# EAGLE library part 4CH-MIXER-2164-2 (library XM8)
Xonik 4 channel voltage controlled exponential mixer with external input
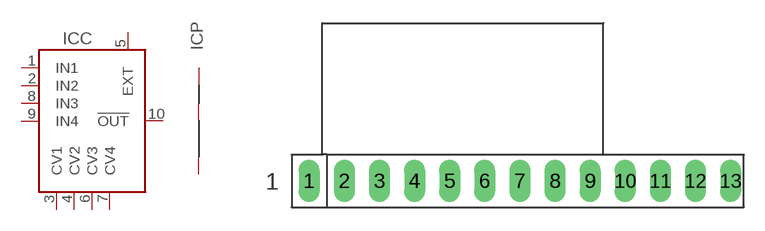
[diagram p14: symbol with the pads of XM8-4CH-MIXER-2164-V; footprint XM8-4CH-MIXER-2164-V]

Designator prefix IC; gates P=XM8-PWR C=XM8-MIXER-V1.0

## 4CH-MIXER-2164-2V  [XM8-4CH-MIXER-2164-V]
1  C:IN1
2  C:IN2
3  C:CV1
4  C:CV2
5  C:EXT
6  C:CV3
7  C:CV4
8  C:IN3
9  C:IN4
10  C:!OUT
11  P:-V  pwr
12  P:+V  pwr
13  P:AGND  pwr

## Footprint XM8-4CH-MIXER-2164-V (pad centres in mm)
Xonik 4 channel mixer (2164), vertical mount
drill 1.016 long: 1 -15.24,0; 2 -12.7,0; 3 -10.16,0; 4 -7.62,0; 5 -5.08,0; 6 -2.54,0; 7 0,0; 8 2.54,0; 9 5.08,0; 10 7.62,0; 11 10.16,0; 12 12.7,0; 13 15.24,0